# EAGLE library part RN42REF (library akizuki_rn42ref)
秋月RN42評価キット http://akizukidenshi.com/catalog/g/gK-07378/
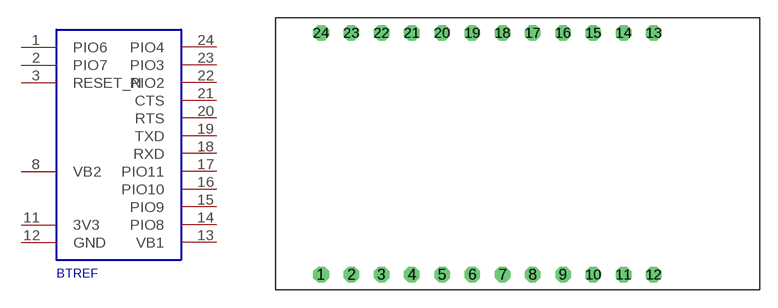
[diagram p0: symbol with the pads of RN42REF; footprint RN42REF]

Designator prefix BTREF

## RN42REF  [RN42REF]
1  PIO6
2  PIO7
3  RESET_N
8  VB2
11  3V3
12  GND
13  VB1
14  PIO8
15  PIO9
16  PIO10
17  PIO11
18  RXD
19  TXD
20  RTS
21  CTS
22  PIO2
23  PIO3
24  PIO4

## Footprint RN42REF (pad centres in mm)
秋月RN-42評価キット Akizuki RN-42 Reference Board http://akizukidenshi.com/catalog/g/gK-07378/
drill 0.8 octagon: 1 -13.97,-10.16; 2 -11.43,-10.16; 3 -8.89,-10.16; 4 -6.35,-10.16; 5 -3.81,-10.16; 6 -1.27,-10.16; 7 1.27,-10.16; 8 3.81,-10.16; 9 6.35,-10.16; 10 8.89,-10.16; 11 11.43,-10.16; 12 13.97,-10.16; 13 13.97,10.16; 14 11.43,10.16; 15 8.89,10.16; 16 6.35,10.16; 17 3.81,10.16; 18 1.27,10.16; 19 -1.27,10.16; 20 -3.81,10.16; 21 -6.35,10.16; 22 -8.89,10.16; 23 -11.43,10.16; 24 -13.97,10.16